# Altium schematic symbol library Schlib1.SchLib: 50 symbols (part 1 of 2)
Pins are listed as number, name and electrical type; pins without a type are passive.

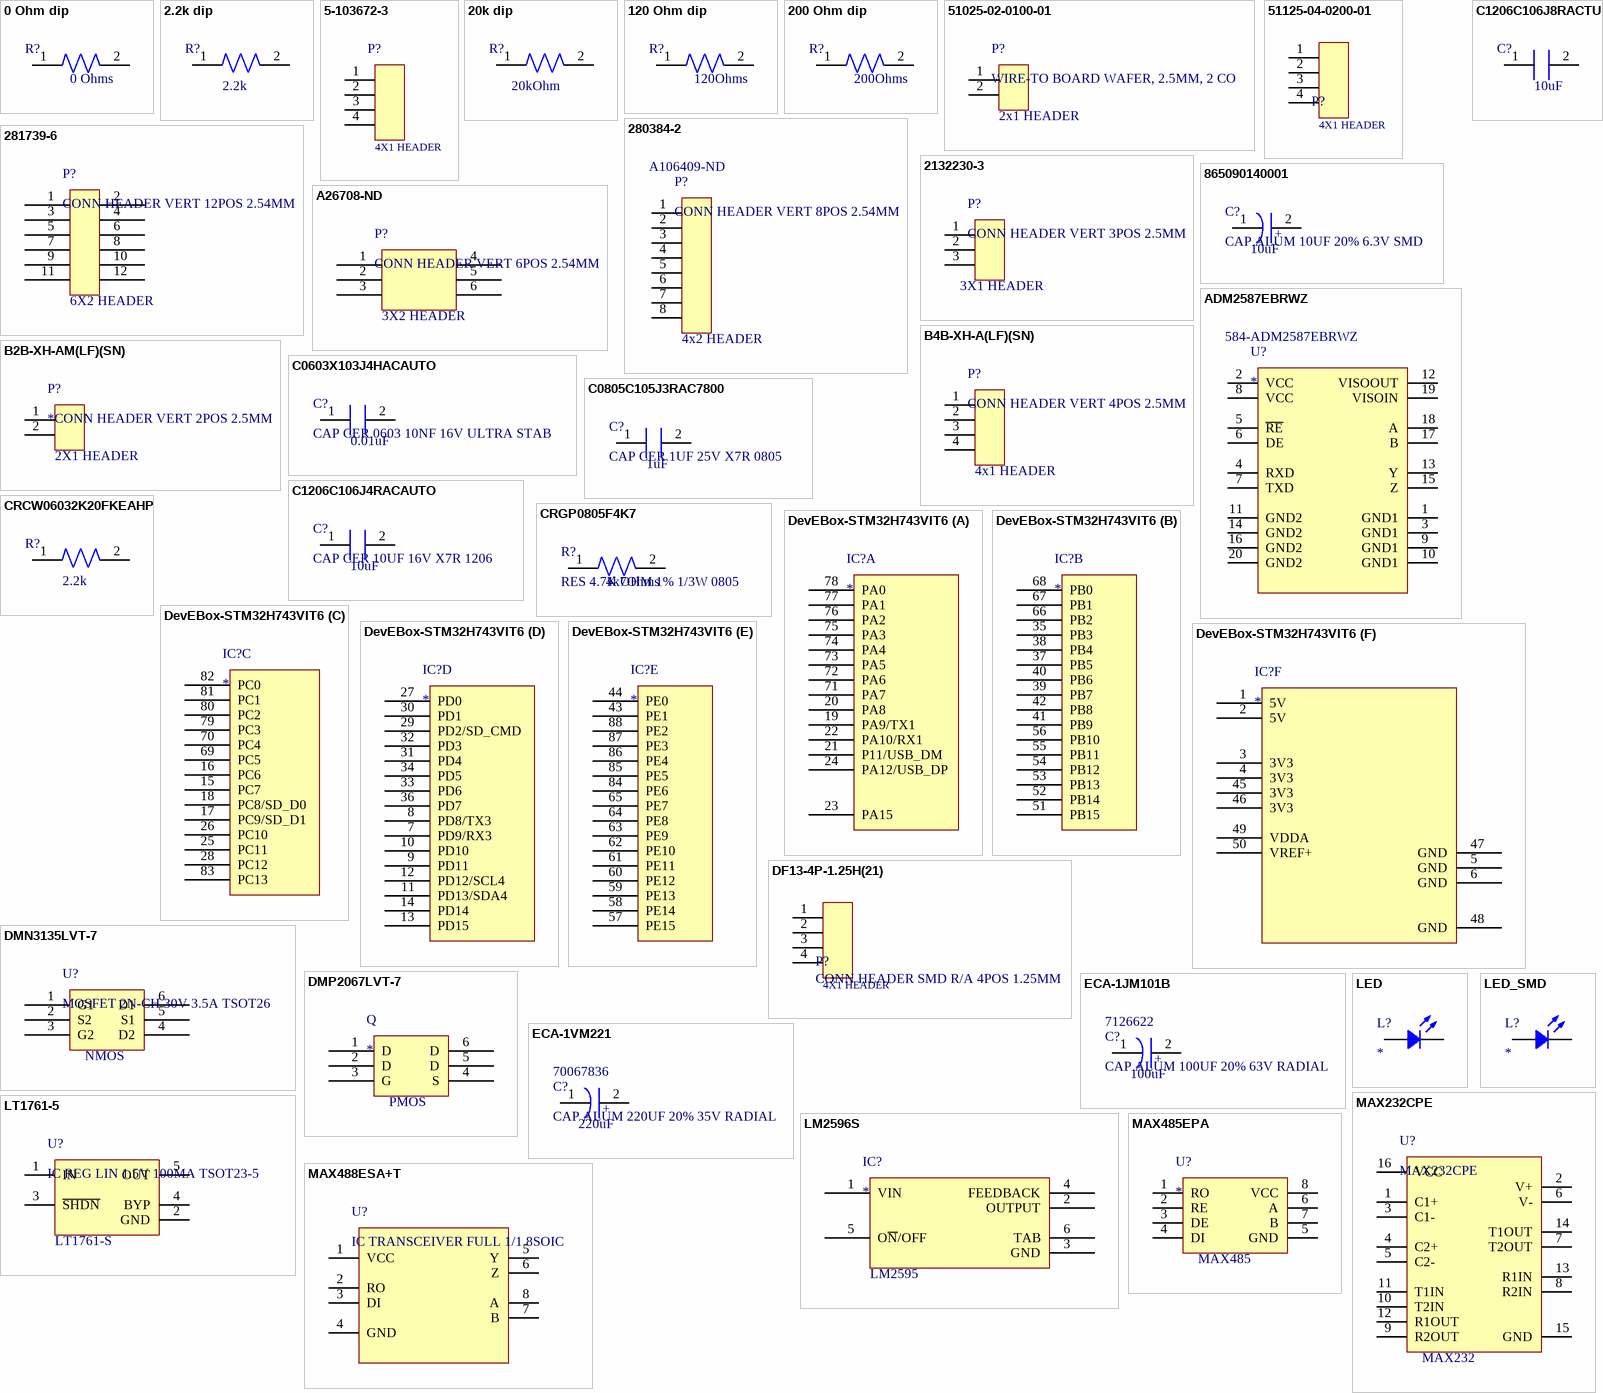
[diagram p0: symbols 0 Ohm dip to MAX488ESA+T]

## 0 Ohm dip
designator R?
Manufacturer: Yageo; Manufacturer Part Number: RC0402JR-070RL; Resistance: 0mR; Power Rating: 62.5mW; Tolerance: 5%; Voltage Rating: 50V; Max Power Dissipation: 63mW; Temperature Coefficient: 200ppm/°C; RoHS: Yes; Category: Chip SMD Resistors; Stock 1: 24575445; Pricing 1: 1=0,10000, 10=0,01200, 25=0,00840, 50=0,00640, 100=0,00470, 250=0,00360, 500=0,00288, 1000=0,00212, 5000=0,00152 (USD); Case/Package: 0402; Contact Plating: Tin,Matte; Case Code (Metric): 1005; Case Code (Imperial): 0402; Size Code: 0402; Min Operating Temperature: -55°C; Max Operating Temperature: 155°C; Resistor Type: Thick Film; Packaging: Tape and Reel; Number of Terminations: 2; Termination: SMD/SMT; Features: Moisture Resistant; Series: RC; Package Quantity: 1; Technology: THICK FILM; Resistance Tolerance: 5%; Construction: Rectangular; Length: 1mm; Width: 0.02inch; Height: 0.016inch; Depth: 0.5mm; Radiation Hardening: No; Lead Free: Lead Free; REACH SVHC: Unknown; RoHS Compliant: Yes; Military Standard: Not
footprint 51025-02-0100-01
pins: 1, 2
text: 0 Ohms

## 2.2k dip
designator R?, comment Dip resistor  (value not drawn)
Manufacturer: Vishay; Manufacturer Part Number: CRCW06032K20FKEAHP; Resistance: 2.2kR; Tolerance: 1%; Temperature Coefficient: 100ppm/°C; Power Rating: 250mW; Voltage Rating: 75V; RoHS: Yes; Category: Chip SMD Resistors; Stock 1: 19777; Pricing 1: 1=0,17000, 10=0,14800, 100=0,05790, 1000=0,02422, 2500=0,02220 (USD); Mount: Surface Mount; Case/Package: 0603; Contact Plating: Tin; Case Code (Metric): 1608; Case Code (Imperial): 0603; Min Operating Temperature: -55°C; Max Operating Temperature: 155°C; Resistor Type: Thick Film; Packaging: Tape and Reel; Package Quantity: 1; Number of Terminations: 2; Termination: Solder; Max Power Dissipation: 250mW; Voltage Rating (DC): 75V; Features: Automotive AEC-Q200; Series: CRCW-HP; Construction: Rectangular; Technology: THICK FILM; Resistance Tolerance: 1%; Length: 1.6mm; Width: 0.033inch; Height: 0.02inch; Depth: 0.85mm; Radiation Hardening: No; REACH SVHC: Unknown; Military Standard: Not; Lead Free: Lead Free; RoHS Compliant: Yes
footprint Resistor DIP
pins: 1, 2
text: 2.2k

## 5-103672-3
designator P?
Conn Shrouded Header (4 Sides) HDR 4 POS 2.54mm Solder RA Side Entry Thru-Hole Tube; Manufacturer: TE Connectivity; Manufacturer Part Number: 5-103672-3; Current Rating: 3A; Number of Positions: 4; Insulation Resistance: 5GR; Connector Type: Plug,Header,Pin; Mating Alignment: Yes (With); PCB Mount Retention: With; Strain Relief: No (Without); Contact Resistance: 15mR; PCB Mounting Orientation: Right Angle; Row Spacing: 0.1inch; Plating Thickness: 2.54um; PCB Thickness: 0.062inch; Tail Length: 3.3mm; Approvals: CSA; Supplier 1: Digi-Key; RoHS: Yes; Category: Connectors; Stock 1: 5165; Pricing 1: 1=0,95000, 42=0,75643, 84=0,72357, 462=0,59199, 966=0,52621, 4914=0,46043, 9828=0,43851 (USD); Mount: Through Hole; Housing Color: Black; Housing Material: Thermoplastic; Color: Black; Contact Material: Brass; Contact Plating: Tin,Matte; Contact Shape: Square; Min Operating Temperature: -65°C; Max Operating Temperature: 105°C; Number of Rows: 1; Package Quantity: 42; Packaging: Rail/Tube; Number of Contacts: 4; Termination: Crimp; Mating Retention: Yes (With); Contact Gender: Male; Orientation: Right Angle; Contact Current Rating: 3A; Series: AMPMODU MTE; Contact Type: Male Pin; Backwall/Post Interruptions: No (Without); Contact Retention: Yes (With); PCB Mount Alignment: No (Without); Length: 12.7mm; Height: 13.59mm; Pitch: 2.54mm; Depth: 13.59mm; Contact Mating Length: 0.23inch; Radiation Hardening: No; Flammability Rating: UL94 V-0; RoHS Compliant: Yes; REACH SVHC: Unknown; ComponentLink1URL: https://datasheet.ciiva.com/22644/eng-cd-103672-ac3-22644666.pdf?src-supplier=Element14; ComponentLink1Description: https://datasheet.ciiva.com/22644/eng-cd-103672-ac3-22644666.pdf?src-supplier=Element14; ComponentLink2URL: https://datasheet.ciiva.com/717/eng-cd-103672-ac3-717869.pdf?src-supplier=Digi-Key; ComponentLink2Description: https://datasheet.ciiva.com/717/eng-cd-103672-ac3-717869.pdf?src-supplier=Digi-Key; ComponentLink3URL: https://datasheet.ciiva.com/9467/eng-cs-1307819-section-5-cont-0808-9467597.pdf?src-supplier=Avnet; ComponentLink3Description: https://datasheet.ciiva.com/9467/eng-cs-1307819-section-5-cont-0808-9467597.pdf?src-supplier=Avnet; ComponentLink4URL: https://datasheet.ciiva.com/30163/eng-cs-1307819-section-5-cont-0808-30163629.pdf?src-supplier=Onlinecomponents.com; ComponentLink4Description: https://datasheet.ciiva.com/30163/eng-cs-1307819-section-5-cont-0808-30163629.pdf?src-supplier=Onlinecomponents.com; Supplier Part Number 1: A35017-ND
footprint DF13-4P-1.25V
pins: 1, 2 8, 3 7, 4 6
text: 4X1 HEADER

## 20k dip
designator R?, comment RES 20K OHM 1% 1/10W 0603  (value not drawn)
Manufacturer: Yageo; Manufacturer Part Number: RC0603FR-0720KL; Resistance: 20kR; Temperature Coefficient: 100ppm/°C; Voltage Rating (DC): 50V; Power Rating: 100mW; RoHS: Yes; Category: Chip SMD Resistors; Stock 1: 2535842; Pricing 1: 1=0,10000, 10=0,02400, 100=0,00970, 1000=0,00436, 2500=0,00378 (USD); Case/Package: 0603; Number of Pins: 2; Case Code (Imperial): 0603; Case Code (Metric): 1608; Size Code: 0603; Min Operating Temperature: -55°C; Max Operating Temperature: 155°C; Tolerance: 1%; Resistor Type: Thick Film; Packaging: Tape and Reel; Voltage Rating: 50V; Package Quantity: 1; Termination: SMD/SMT; Number of Terminations: 2; Max Power Dissipation: 100mW; Features: Moisture Resistant; Series: RC; Technology: THICK FILM; Construction: Rectangular; Resistance Tolerance: 1%; Length: 0.063inch; Width: 0.031inch; Height: 0.022inch; Depth: 0.8mm; Lead Free: Lead Free; RoHS Compliant: Yes; REACH SVHC: No SVHC; Military Standard: Not; ComponentLink1Description: http://www.royalohm.com/pdf/product2017/GeneralPurpose.pdf; ComponentLink1URL: *
footprint Resistor DIP
pins: 1, 2
text: 20kOhm

## 120 Ohm dip
designator R?
Manufacturer: Yageo; Manufacturer Part Number: RC0402FR-07120RL; Resistance: 120R; Tolerance: 1%; Power Rating: 62.5mW; Voltage Rating: 50V; Temperature Coefficient: 100ppm/°C; Max Power Dissipation: 63mW; RoHS: Yes; Category: Chip SMD Resistors; Stock 1: 1648497; Pricing 1: 1=0,10000, 10=0,01600, 100=0,00660, 1000=0,00299, 2500=0,00259, 5000=0,00214 (USD); Case/Package: 0402; Case Code (Imperial): 0402; Case Code (Metric): 1005; Size Code: 0402; Min Operating Temperature: -55°C; Max Operating Temperature: 155°C; Package Quantity: 1; Packaging: Tape and Reel; Termination: SMD/SMT; Resistor Type: Thick Film; Number of Terminations: 2; Features: Moisture Resistant; Series: RC; Resistance Tolerance: 1%; Construction: Rectangular; Technology: THICK FILM; Length: 1mm; Width: 0.02inch; Height: 0.016inch; Depth: 0.5mm; REACH SVHC: No SVHC; Military Standard: Not; Lead Free: Lead Free; RoHS Compliant: Yes
footprint Resistor DIP
pins: 1, 2
text: 120Ohms

## 200 Ohm dip
designator R?
Manufacturer: Yageo; Manufacturer Part Number: RC0201JR-0710KL; Resistance: 10kR; Tolerance: 5%; Temperature Coefficient: 200ppm/°C; Power Rating: 50mW; Voltage Rating: 25V; Working Voltage: 75V; RoHS: Yes; Category: Chip SMD Resistors; Stock 1: 588676; Pricing 1: 1=0,10000, 10=0,02900, 100=0,01190, 1000=0,00536, 2500=0,00466, 5000=0,00385 (USD); Case/Package: 0201; Contact Plating: Tin,Matte; Case Code (Imperial): 0201; Case Code (Metric): 0603; Size Code: 0201; Min Operating Temperature: -55°C; Max Operating Temperature: 125°C; Resistor Type: Thick Film; Packaging: Tape and Reel; Termination: SMD/SMT; Voltage Rating (DC): 25V; Features: Moisture Resistant; Series: RC; Max Power Dissipation: 50mW; Number of Terminations: 2; Resistance Tolerance: 5%; Construction: Rectangular; Length: 0.6mm; Depth: 0.3mm; Radiation Hardening: No; REACH SVHC: Unknown; Military Standard: Not; Lead Free: Lead Free; RoHS Compliant: Yes; Stock 2: 1724081; Pricing 2: 1=0,10000, 10=0,02400, 100=0,00970, 1000=0,00436, 2500=0,00378 (USD); Number of Pins: 2; Package Quantity: 5000; Technology: THICK FILM; Width: 0.8mm; Height: 0.45mm
footprint Resistor DIP
pins: 1, 2
text: 200Ohms

## 51025-02-0100-01
designator P?, comment WIRE-TO BOARD WAFER, 2.5MM, 2 CO
Connector Header Through Hole 2 position 0.098" (2.50mm); Manufacturer: CNC Tech; Manufacturer Part Number: 51025-02-0100-01; Supplier 1: Digi-Key; RoHS: No; Stock 1: 15526; Pricing 1: 1=0,10000, 10=0,08300, 100=0,06090, 500=0,05040, 1000=0,04410, 5000=0,03780, 10000=0,03675 (USD); Supplier Part Number 1: 1175-51025-02-0100-01-ND
footprint 51025-02-0100-01
pins: 1, 2
text: 2x1 HEADER

## 51125-04-0200-01
designator P?, comment WIRE-TO BOARD HEADER, 2.5MM, 4 C  (value not drawn)
Manufacturer: CNC Tech; Manufacturer Part Number: 51125-04-0200-01; Supplier 1: Digi-Key; RoHS: No; Category: Connectors; Stock 1: 5369; Pricing 1: 1=0,21000, 10=0,17700, 100=0,13650, 500=0,11550, 1000=0,09450, 5000=0,08400, 10000=0,07613 (USD); Supplier Part Number 1: 1175-51125-04-0200-01-ND
footprint 51125-04-0200-01
pins: 1, 2 8, 3 7, 4 6
text: 4X1 HEADER

## 280384-2
designator P?, comment CONN HEADER VERT 8POS 2.54MM  Supplier Part Number 1: A106409-ND
Straight PCB Header, 8-Way 2 Row, 2.54 mm Pitch, Solder, AMPMODU Mod II Series; Manufacturer: TE Connectivity; Manufacturer Part Number: 280384-2; Number of Contacts: 8; Connector Type: Plug,Header,Pin; Current Rating: 3A; Insulation Resistance: 1GR; Gender: Male; Board Standoff: No (Without); Contact Protection: Yes (With); High Speed Serial Data Connector: No; PCB Mount Retention: Without; PCB Mounting Orientation: Vertical; Contact Post Length: 0.138inch; Plating Thickness: 2.5um; Approvals: CSA; Supplier 1: Digi-Key; RoHS: Yes; Category: Headers and Wire Housings; Stock 1: 4241; Pricing 1: 1=1,41000, 10=1,19200, 100=1,07000, 500=0,87546, 1000=0,77819, 5000=0,68092, 10000=0,64849 (USD); Mount: Through Hole; Contact Plating: Gold,Tin; Contact Material: Brass; Color: Black; Housing Material: Thermoplastic; Housing Color: Black; Contact Shape: Round; Material: Thermoplastic; Min Operating Temperature: -65°C; Max Operating Temperature: 105°C; Number of Rows: 2; Termination: Through Hole; Packaging: Box; Package Quantity: 1000; Contact Gender: Male; Number of Positions: 8; Orientation: Straight; Gasket: No (Without); High Temperature Housing: No; Keyed: No; Mating Alignment: Yes (With); Mating Connector Lock: Yes (With); Selectively Loaded: No (Without); Stabilizers: No (Without); Strain Relief: No (Without); Series: AMPMODU MOD II; Contact Type: Male Pin; Length: 12.7mm; Pitch: 2.54mm; Row Spacing: 2.54mm; Depth: 7mm; Contact Mating Length: 0.26inch; Shrouded End Dimension: 1.65mm; Radiation Hardening: No; Flammability Rating: UL94 V-0; REACH SVHC: Unknown; ELV: Compliant; RoHS Compliant: Yes; Lead Free: Lead Free; ComponentLink1URL: https://datasheet.ciiva.com/6831/eng-cd-280384-t-6831188.pdf?src-supplier=Digi-Key; ComponentLink1Description: https://datasheet.ciiva.com/6831/eng-cd-280384-t-6831188.pdf?src-supplier=Digi-Key; ComponentLink2URL: https://datasheet.ciiva.com/30131/2803842-30131120.pdf?src-supplier=Onlinecomponents.com; ComponentLink2Description: https://datasheet.ciiva.com/30131/2803842-30131120.pdf?src-supplier=Onlinecomponents.com; ComponentLink3URL: https://datasheet.ciiva.com/16308/280384-2-16308477.pdf?src-supplier=Future+Electronics; ComponentLink3Description: https://datasheet.ciiva.com/16308/280384-2-16308477.pdf?src-supplier=Future+Electronics; ComponentLink4URL: https://datasheet.ciiva.com/11746/0900766b805fc845-11746302.pdf?src-supplier=RSComponents; ComponentLink4Description: https://datasheet.ciiva.com/11746/0900766b805fc845-11746302.pdf?src-supplier=RSComponents; ComponentLink5URL: https://datasheet.ciiva.com/29369/001079533-da-01-en-4x2pol-stiftleiste-schutzkragen-29369272.pdf?src-supplier=Conrad; ComponentLink5Description: https://datasheet.ciiva.com/29369/001079533-da-01-en-4x2pol-stiftleiste-schutzkragen-29369272.pdf?src-supplier=Conrad; ComponentLink6URL: https://datasheet.ciiva.com/14120/04383204-14120725.pdf?src-supplier=Distrelec; ComponentLink6Description: https://datasheet.ciiva.com/14120/04383204-14120725.pdf?src-supplier=Distrelec
footprint 280384-2 (CONN HEADER VERT 8POS 2.54MM)
pins: 1, 2, 3, 4, 5, 6, 7, 8
text: 4x2 HEADER

## 281739-6
designator P?, comment CONN HEADER VERT 12POS 2.54MM
Conn Shrouded Header HDR 12 POS 2.54mm Solder ST Thru-Hole Loose Piece; Manufacturer: TE Connectivity; Manufacturer Part Number: 281739-6; Current Rating: 3A; Number of Poles: 12; Contact Resistance: 15mR; Mating Cycles: 30; Insulation Resistance: 1GR; Working Voltage: 500V; Connector Type: Plug,Header,Pin; Gender: Male; Board Standoff: No (Without); Contact Protection: Yes (With); Keyed: No; PCB Mount Retention: Without; PCB Mounting Orientation: Vertical; Contact Post Length: 2.9mm; Hole Diameter: 1mm; Supplier 1: Digi-Key; RoHS: Yes; Category: Headers and Wire Housings; Stock 1: 2109; Pricing 1: 1=2,80000, 10=2,54500, 100=2,24220, 500=1,90586, 1000=1,62559, 5000=1,49479 (USD); Mount: Through Hole; Contact Plating: Tin; Color: Blue; Material: Glass,Polyester; Insulation Material: Thermoplastic; Contact Material: Bronze; Housing Color: Blue; Housing Material: Thermoplastic; Contact Shape: Square; Contact Finish - Mating: TIN; Insulation Color: Blue; Min Operating Temperature: -55°C; Max Operating Temperature: 105°C; Number of Rows: 2; Package Quantity: 2000; Termination: Through Hole; Number of Contacts: 12; Series: HE13/HE14; Packaging: Box; Contact Gender: Male; Number of Positions: 12; Orientation: Straight; Gasket: No (Without); Mating Alignment: No (Without); Mating Connector Lock: No (Without); Selectively Loaded: No (Without); Stabilizers: No (Without); Strain Relief: No (Without); Contact Current Rating: 3A; Fastening Type: Friction; Contact Type: Male Pin; Length: 15.24mm; Pitch: 2.54mm; Lead Pitch: 2.54mm; Row Spacing: 2.54mm; Contact Mating Length: 6.75mm; Depth: 7.62mm; Shrouded End Dimension: 1.27mm; Radiation Hardening: No; REACH SVHC: No SVHC; RoHS Compliant: Yes; Flammability Rating: UL94 V-0; ELV: Compliant; ComponentLink1URL: https://datasheet.ciiva.com/11748/0900766b8124a6f5-11748092.pdf?src-supplier=RSComponents; ComponentLink1Description: https://datasheet.ciiva.com/11748/0900766b8124a6f5-11748092.pdf?src-supplier=RSComponents; ComponentLink2URL: https://datasheet.ciiva.com/41447/001173320-da-01-ml-he14-stiftleiste-0-0281739-6-en-fr-41447806.pdf?src-supplier=Conrad; ComponentLink2Description: https://datasheet.ciiva.com/41447/001173320-da-01-ml-he14-stiftleiste-0-0281739-6-en-fr-41447806.pdf?src-supplier=Conrad; ComponentLink3URL: https://datasheet.ciiva.com/7212/23844-7212941.pdf?src-supplier=Newark; ComponentLink3Description: https://datasheet.ciiva.com/7212/23844-7212941.pdf?src-supplier=Newark; ComponentLink4URL: https://datasheet.ciiva.com/731/eng-cd-281739-g1-731286.pdf?src-supplier=Digi-Key; ComponentLink4Description: https://datasheet.ciiva.com/731/eng-cd-281739-g1-731286.pdf?src-supplier=Digi-Key; Supplier Part Number 1: A121458-ND
footprint 281739-6 (CONN HEADER VERT 12POS 2.54MM)
pins: 1, 2, 3, 4, 5, 6, 7, 8, 9, 10, 11, 12
text: 6X2 HEADER

## 2132230-3
designator P?, comment CONN HEADER VERT 3POS 2.5MM
Conn Shrouded Header HDR 3Power POS 2.5mm Solder ST Top Entry Thru-Hole Bag; Manufacturer: TE Connectivity; Manufacturer Part Number: 2132230-3; Connector Type: Plug,Header,Pin; Gender: Male; Contact Current Rating: 4.2A; Backwall/Post Interruptions: No (Without); Connector System: Wire-to-Board; Mating Alignment: Yes (With); Voltage Rating: 250V; Current Rating: 3A; Contact Style: Straight; Number of Positions: 3; PCB Mount Retention: Without; PCB Mounting Orientation: Vertical; Plating Thickness: 2.032um; PCB Thickness: 0.063inch; Tail Length: 3.4mm; Supplier 1: Digi-Key; RoHS: Yes; Category: Headers and Wire Housings; Stock 1: 3045; Pricing 1: 1=0,30000, 10=0,25700, 100=0,19970, 500=0,17120, 1000=0,14266, 5000=0,12228, 10000=0,11413 (USD); Mount: Through Hole; Housing Material: Nylon; Housing Color: White; Contact Shape: Square; Contact Material: Brass; Contact Plating: Tin; Color: Natural; Min Operating Temperature: -55°C; Max Operating Temperature: 105°C; Orientation: Straight; Contact Retention: No (Without); Mating Retention: Yes (With); PCB Mount Alignment: Yes (With); Sealable: No (Without); Selectively Loaded: No (Without); Number of Rows: 1; Contact Gender: Male; Package Quantity: 600; Max Voltage Rating (AC): 250V; Packaging: Bag; Termination: Solder; Number of Contacts: 3; Length: 10mm; Width: 6.4mm; Height: 8.8mm; Pitch: 2.5mm; Contact Mating Length: 3.6mm; Depth: 6.4mm; Radiation Hardening: No; ELV: Compliant; Flammability Rating: UL94 V-0; REACH SVHC: No SVHC; Lead Free: Lead Free; ComponentLink1URL: https://datasheet.ciiva.com/12501/ng-cd-2132230-d2-18263-12501858.pdf?src-supplier=Mouser; ComponentLink1Description: https://datasheet.ciiva.com/12501/ng-cd-2132230-d2-18263-12501858.pdf?src-supplier=Mouser; ComponentLink2URL: https://datasheet.ciiva.com/736/eng-cd-2132230-f-736027.pdf?src-supplier=Digi-Key; ComponentLink2Description: https://datasheet.ciiva.com/736/eng-cd-2132230-f-736027.pdf?src-supplier=Digi-Key; ComponentLink3URL: https://datasheet.ciiva.com/30153/790ddetrolleractionsrchrtrvdocnm7-1773461-6ep2-5doctypedatasheetd-30153803.pdf?src-supplier=Onlinecomponents.com; ComponentLink3Description: https://datasheet.ciiva.com/30153/790ddetrolleractionsrchrtrvdocnm7-1773461-6ep2-5doctypedatasheetd-30153803.pdf?src-supplier=Onlinecomponents.com; ComponentLink4URL: https://datasheet.ciiva.com/9528/eng-ds-7-1773461-6ep2-5-0615-9528616.pdf?src-supplier=Avnet; ComponentLink4Description: https://datasheet.ciiva.com/9528/eng-ds-7-1773461-6ep2-5-0615-9528616.pdf?src-supplier=Avnet
footprint 2132230-3 (CONN HEADER VERT 3POS 2.5MM)
pins: 1, 2, 3
text: 3X1 HEADER

## 865090140001
designator C?, comment CAP ALUM 10UF 20% 6.3V SMD
Smd Aluminium Electrolytic Capacitor, Wcap-Aslu Series, 10 F, 6.3 V, Radial Can - Smd, 4 Mm Rohs Compliant: Yes; Manufacturer: Wurth Electronics; Manufacturer Part Number: 865090140001; Polarity: Polar; Ripple Current: 15mA; Life (Hours): 1000Hour; Supplier 1: Digi-Key; RoHS: Yes; Category: Aluminum Electrolytic Capacitors; Stock 1: 1938; Pricing 1: 1=0,18000, 50=0,15100, 100=0,13100, 250=0,11700, 500=0,10200, 1000=0,09700 (USD); Mount: Surface Mount; Case/Package: Radial; Min Operating Temperature: -40°C; Max Operating Temperature: 85°C; Package Quantity: 2000; Packaging: Cut Tape; Voltage Rating: 6.3V; Ripple Current (AC): 15mA; Tolerance: 20%; Voltage Rating (DC): 6.3V; Capacitance: 10uF; Diameter: 4mm; Height: 5.5mm; Height - Seated (Max): 0.217inch; REACH SVHC: Unknown; RoHS Compliant: Yes; ComponentLink1URL: http://www.farnell.com/datasheets/1880191.pdf?src-supplier=Farnell; ComponentLink1Description: http://www.farnell.com/datasheets/1880191.pdf?src-supplier=Farnell; ComponentLink2URL: http://www.farnell.com/datasheets/1880191.pdf?src-supplier=Element14; ComponentLink2Description: http://www.farnell.com/datasheets/1880191.pdf?src-supplier=Element14; ComponentLink3URL: http://www.farnell.com/datasheets/1880191.pdf?src-supplier=Newark; ComponentLink3Description: http://www.farnell.com/datasheets/1880191.pdf?src-supplier=Newark; ComponentLink4URL: http://katalog.we-online.de/pbs/datasheet/865090140001.pdf?src-supplier=Digi-Key; ComponentLink4Description: http://katalog.we-online.de/pbs/datasheet/865090140001.pdf?src-supplier=Digi-Key; ComponentLink5URL: https://katalog.we-online.de/pbs/datasheet/865090140001.pdf?src-supplier=Digi-Key; ComponentLink5Description: https://katalog.we-online.de/pbs/datasheet/865090140001.pdf?src-supplier=Digi-Key; Supplier Part Number 1: 732-8385-1-ND
footprint CAPAE430X550N
pins: 1, 2
text: +

## A26708-ND
designator P?, comment CONN HEADER VERT 6POS 2.54MM
Conn Shrouded Header (4 Sides) HDR 6 POS 2.54mm Solder ST Top Entry Thru-Hole Tray; Manufacturer: TE Connectivity; Manufacturer Part Number: 103168-1; Current Rating: 3A; Number of Positions: 6; Connector Type: Plug,Header,Pin; Board Standoff: No (Without); Contact Protection: Yes (With); High Speed Serial Data Connector: No; PCB Mount Retention: Without; PCB Mounting Orientation: Vertical; Contact Post Length: 0.125inch; Approvals: CSA; Supplier 1: Avnet; RoHS: No; Category: Headers and Wire Housings; Stock 1: 6268; Pricing 1: 232=1,27440, 240=1,25820, 470=1,23660, 1200=0,97005, 2400=0,96135, 232=0,94668, 240=0,93465, 470=0,91860, 1200=0,89453, 2400=0,88651 (USD); Mount: Through Hole; Contact Plating: Gold,Tin; Contact Material: Bronze; Color: Black; Housing Color: Black; Housing Material: Thermoplastic; Contact Shape: Square; Min Operating Temperature: -65°C; Max Operating Temperature: 105°C; Packaging: Tray; Number of Rows: 2; Contact Gender: Male; Package Quantity: 232; Fastening Type: Detent; Termination: Through Hole; Number of Contacts: 6; Orientation: Straight; Gasket: No (Without); High Temperature Housing: No; Keyed: No; Mating Alignment: Yes (With); Mating Connector Lock: Yes (With); Selectively Loaded: No (Without); Stabilizers: No (Without); Strain Relief: No (Without); Contact Current Rating: 3A; Series: AMPMODU MOD II; Contact Type: Male Pin; Length: 10.46mm; Height: 11.18mm; Pitch: 2.54mm; Row Spacing: 2.54mm; Contact Mating Length: 8.08mm; Depth: 10.16mm; Shrouded End Dimension: 1.68mm; Radiation Hardening: No; Flammability Rating: UL94 V-0; RoHS Compliant: No; ComponentLink1URL: https://datasheet.ciiva.com/30255/103168-1rqpn103168-1-30255969.pdf?src-supplier=Onlinecomponents.com; ComponentLink1Description: https://datasheet.ciiva.com/30255/103168-1rqpn103168-1-30255969.pdf?src-supplier=Onlinecomponents.com; ComponentLink2URL: https://datasheet.ciiva.com/16323/103168-1-16323140.pdf?src-supplier=Future+Electronics; ComponentLink2Description: https://datasheet.ciiva.com/16323/103168-1-16323140.pdf?src-supplier=Future+Electronics; ComponentLink3URL: https://datasheet.ciiva.com/15191/getdatasheetpartid-90739-15191128.pdf?src-supplier=Verical; ComponentLink3Description: https://datasheet.ciiva.com/15191/getdatasheetpartid-90739-15191128.pdf?src-supplier=Verical; ComponentLink4URL: https://datasheet.ciiva.com/19461/737627-19461917.pdf?src-supplier=Jameco; ComponentLink4Description: https://datasheet.ciiva.com/19461/737627-19461917.pdf?src-supplier=Jameco; ComponentLink5URL: https://datasheet.ciiva.com/710/eng-cd-103168-j4-710153.pdf?src-supplier=Digi-Key; ComponentLink5Description: https://datasheet.ciiva.com/710/eng-cd-103168-j4-710153.pdf?src-supplier=Digi-Key
footprint A26708-ND (CONN HEADER VERT 6POS 2.54MM)
pins: 1, 2, 3, 4, 5, 6
text: 3X2 HEADER

## ADM2587EBRWZ
designator U?  Supplier Part Number 1: 584-ADM2587EBRWZ
Single Transmitter/Receiver RS-422/RS-485 20-Pin SOIC W Tube; Manufacturer: Analog Devices; Manufacturer Part Number: ADM2587EBRWZ; Number of Transmitters: 1; Logic Function: Transceiver; Propagation Delay: 200ns; Min Supply Voltage: 3V; Max Supply Voltage: 5.5V; Nominal Supply Current: 125mA; Data Rate: 500Kbps; Operating Supply Voltage: 5V; Number of Channels: 3; Channel Type: Unidirectional; Isolated Power: Yes; Frequency: 500kHz; Isolation Voltage: 2.5kV; Simplex/Duplex: Full Duplex; Interface: RS-422,RS-485; Supplier 1: Mouser; RoHS: Yes; Category: RS-232 / RS-422 / RS-485 Interface ICs; Stock 1: 16; Pricing 1: 1=14,40000, 10=13,24000, 25=12,69000, 50=12,69000, 100=12,69000, 111=11,17000, 1000=11,17000, 10000=11,17000 (USD); Mount: Surface Mount; Case/Package: SOIC; Number of Pins: 20; Contact Plating: Tin,Matte; Min Operating Temperature: -40°C; Max Operating Temperature: 85°C; Packaging: Rail/Tube; Number of Receivers: 1; Package Quantity: 37; Operating Supply Current: 125mA; Number of Transceivers: 1; Supply Current: 125mA; Series: IsoPower®, iCoupler®; Number of Drivers: 1; Max Supply Current: 125mA; ESD Protection: Yes; Length: 13mm; Width: 7.6mm; Height: 2.35mm; Radiation Hardening: No; Lead Free: Contains Lead; RoHS Compliant: Yes; REACH SVHC: No SVHC; ComponentLink1URL: https://datasheet.ciiva.com/14185/adm2587e-eng-tds-14185959.pdf?src-supplier=Distrelec; ComponentLink1Description: https://datasheet.ciiva.com/14185/adm2587e-eng-tds-14185959.pdf?src-supplier=Distrelec; ComponentLink2URL: https://datasheet.ciiva.com/26833/adm2587ebrwz-26833967.pdf?src-supplier=IIIC; ComponentLink2Description: https://datasheet.ciiva.com/26833/adm2587ebrwz-26833967.pdf?src-supplier=IIIC; ComponentLink3URL: https://datasheet.ciiva.com/3029/adm2582e-2587e-3029985.pdf?src-supplier=Avnet; ComponentLink3Description: https://datasheet.ciiva.com/3029/adm2582e-2587e-3029985.pdf?src-supplier=Avnet; ComponentLink4URL: https://datasheet.ciiva.com/1700/adm2582e-2587e-1700686.pdf?src-supplier=Digi-Key; ComponentLink4Description: https://datasheet.ciiva.com/1700/adm2582e-2587e-1700686.pdf?src-supplier=Digi-Key; ComponentLink5URL: https://datasheet.ciiva.com/48708/001248353-da-01-en-ic-txrx-rs485-i-adm2587ebrwz-soic-20-adi-48708666.pdf?src-supplier=Conrad; ComponentLink5Description: https://datasheet.ciiva.com/48708/001248353-da-01-en-ic-txrx-rs485-i-adm2587ebrwz-soic-20-adi-48708666.pdf?src-supplier=Conrad
footprint ADM2587EBRWZ
pins: 1 GND1, 2 VCC, 3 GND1, 4 RXD, 5 ~{RE}, 6 DE, 7 TXD, 8 VCC, 9 GND1, 10 GND1, 11 GND2, 12 VISOOUT, 13 Y, 14 GND2, 15 Z, 16 GND2, 17 B, 18 A, 19 VISOIN, 20 GND2

## B2B-XH-AM(LF)(SN)
designator P?, comment *CONN HEADER VERT 2POS 2.5MM
Conn Shrouded Header (4 Sides) HDR 2 POS 2.5mm Solder ST Top Entry Thru-Hole Box; Manufacturer: JST; Manufacturer Part Number: B2B-XH-A(LF)(SN); Number of Positions: 2; Connector Type: Male Pin; Contact Resistance: 20mR; Max Current Rating: 3A; Max Voltage Rating (AC): 250V; Insulation Resistance: 1GR; Wire/Cable Gauge: 22AWG; Supplier 1: RSComponents; RoHS: Yes; Category: Headers and Wire Housings; Stock 1: 7000; Mount: Through Hole; Contact Plating: Tin,Copper,Lead; Color: Natural; Contact Material: Brass; Housing Color: White; Housing Material: Polyamide; Min Operating Temperature: -25°C; Max Operating Temperature: 85°C; Number of Rows: 1; Packaging: Bulk; Termination: Solder; Fastening Type: Detent; Current Rating: 3A; Orientation: Straight; Voltage Rating: 250V; Voltage Rating (AC): 250V; Number of Contacts: 2; Max Voltage Rating (DC): 250V; Length: 7.4mm; Pitch: 2.5mm; Depth: 5.75mm; Lead Pitch: 2.5mm; Lead Free: Lead Free; REACH SVHC: No SVHC; ComponentLink1URL: https://datasheet.ciiva.com/26894/getdatasheetpartid-640357-26894434.pdf?src-supplier=Verical; ComponentLink1Description: https://datasheet.ciiva.com/26894/getdatasheetpartid-640357-26894434.pdf?src-supplier=Verical; ComponentLink2URL: https://datasheet.ciiva.com/11746/0900766b8082653e-11746979.pdf?src-supplier=RSComponents; ComponentLink2Description: https://datasheet.ciiva.com/11746/0900766b8082653e-11746979.pdf?src-supplier=RSComponents; ComponentLink3URL: https://datasheet.ciiva.com/26894/getdatasheetpartid-385291-26894760.pdf?src-supplier=Verical; ComponentLink3Description: https://datasheet.ciiva.com/26894/getdatasheetpartid-385291-26894760.pdf?src-supplier=Verical; ComponentLink4URL: https://datasheet.ciiva.com/8052/5448-8052024.pdf?src-supplier=Element14; ComponentLink4Description: https://datasheet.ciiva.com/8052/5448-8052024.pdf?src-supplier=Element14; ComponentLink5URL: https://datasheet.ciiva.com/20207/523653-20207167.pdf?src-supplier=Rapid+Electronics; ComponentLink5Description: https://datasheet.ciiva.com/20207/523653-20207167.pdf?src-supplier=Rapid+Electronics; Supplier 2: Digi-Key; Stock 2: 7636; Pricing 2: 1=0,17000, 10=0,13100, 100=0,09660, 500=0,07998, 1000=0,06999, 5000=0,05999, 10000=0,05832 (USD); ComponentLink6URL: https://datasheet.ciiva.com/26894/getdatasheetpartid-640409-26894436.pdf?src-supplier=Verical; ComponentLink6Description: https://datasheet.ciiva.com/26894/getdatasheetpartid-640409-26894436.pdf?src-supplier=Verical; ComponentLink7URL: https://datasheet.ciiva.com/14800/exh-14800590.pdf?src-supplier=Digi-Key; ComponentLink7Description: https://datasheet.ciiva.com/14800/exh-14800590.pdf?src-supplier=Digi-Key
footprint 51025-02-0100-01
pins: 1, 2
text: 2X1 HEADER

## B4B-XH-A(LF)(SN)
designator P?, comment CONN HEADER VERT 4POS 2.5MM
XH Series 4 Position 2.5 mm Pitch Through Hole Crimp Top Entry Shrouded Header; Manufacturer: JST; Manufacturer Part Number: B4B-XH-A(LF)(SN); Current Rating: 3A; Gender: Male; Contact Resistance: 20mR; Voltage Rating (AC): 250V; Connector Type: Male Pin; Number of Positions: 4; Insulation Resistance: 1GR; Wire/Cable Gauge: 22AWG; Supplier 1: Digi-Key; RoHS: Yes; Category: FFC / FPC; Stock 1: 53884; Pricing 1: 1=0,21000, 10=0,17500, 100=0,13480, 500=0,11406, 1000=0,09333, 5000=0,08296, 10000=0,07518 (USD); Mount: Through Hole; Contact Material: Brass; Material: Polyamide; Contact Plating: Tin,Copper,Lead; Color: Natural; Housing Material: Polyamide; Housing Color: White; Min Operating Temperature: -25°C; Max Operating Temperature: 85°C; Number of Rows: 1; Max Current Rating: 3A; Package Quantity: 500; Packaging: Bulk; Voltage Rating: 250V; Termination: Press-Fit; Max Voltage Rating (AC): 250V; Max Voltage Rating (DC): 250V; Number of Contacts: 4; Orientation: Straight; Length: 12.4mm; Pitch: 2.5mm; Lead Pitch: 2.5mm; Depth: 5.75mm; REACH SVHC: No SVHC; Lead Free: Lead Free; ComponentLink1URL: https://datasheet.ciiva.com/26894/getdatasheetpartid-455616-26894787.pdf?src-supplier=Verical; ComponentLink1Description: https://datasheet.ciiva.com/26894/getdatasheetpartid-455616-26894787.pdf?src-supplier=Verical; ComponentLink2URL: https://datasheet.ciiva.com/26924/getdatasheetpartid-640571-26924035.pdf?src-supplier=Verical; ComponentLink2Description: https://datasheet.ciiva.com/26924/getdatasheetpartid-640571-26924035.pdf?src-supplier=Verical; ComponentLink3URL: https://datasheet.ciiva.com/16203/b4b-xh-alfsn-16203642.pdf?src-supplier=Future+Electronics; ComponentLink3Description: https://datasheet.ciiva.com/16203/b4b-xh-alfsn-16203642.pdf?src-supplier=Future+Electronics; ComponentLink4URL: https://datasheet.ciiva.com/726/exh-726404.pdf?src-supplier=Digi-Key; ComponentLink4Description: https://datasheet.ciiva.com/726/exh-726404.pdf?src-supplier=Digi-Key; Supplier Part Number 1: 455-2249-ND
footprint B2B-XH-AM(LF)(SN)
pins: 1, 2, 3, 4
text: 4x1 HEADER

## C0603X103J4HACAUTO
designator C?, comment CAP CER 0603 10NF 16V ULTRA STAB
Cap Ceramic 0.01uF 16V X8R 5% Pad SMD 0603 Flexible Termination 150C Extreme Low ESR Automotive T/R; Manufacturer: KEMET; Manufacturer Part Number: C0603X103J4HACAUTO; Supplier 1: Digi-Key; RoHS: Yes; Category: Ceramic Capacitors; Stock 1: 9670; Pricing 1: 1=0,24000, 10=0,16700, 50=0,10000, 100=0,08440, 500=0,05778, 1000=0,05111 (USD); Mount: Surface Mount; Case/Package: 0603; Min Operating Temperature: -55°C; Max Operating Temperature: 150°C; Features: Soft Termination; Packaging: Tape and Reel; Capacitance: 10nF; Tolerance: 5%; Voltage Rating: 16V; Ratings: AEC-Q200; RoHS Compliant: Yes; ComponentLink1URL: https://api.kemet.com/component-edge/download/datasheet/C0603X103J4HACAUTO.pdf?src-supplier=Digi-Key; ComponentLink1Description: https://api.kemet.com/component-edge/download/datasheet/C0603X103J4HACAUTO.pdf?src-supplier=Digi-Key; Supplier Part Number 1: 399-C0603X103J4HACAUTOCT-ND
footprint C0603X103J4HACAUTO - duplicate
pins: 1, 2
text: 0.01uF

## C0805C105J3RAC7800
designator C?, comment CAP CER 1UF 25V X7R 0805
Cap Ceramic 1uF 25V X7R 5% SMD 0805 125C Plastic T/R; Manufacturer: KEMET; Manufacturer Part Number: C0805C105J3RACTU; Supplier 1: Farnell; RoHS: Yes; Category: Ceramic Capacitors; Stock 1: 72500; Pricing 1: 2500=0,29500 (EUR); Mount: Surface Mount; Case/Package: 0805; Case Code (Metric): 2012; Case Code (Imperial): 0805; Dielectric Material: Ceramic; Min Operating Temperature: -55°C; Max Operating Temperature: 125°C; Package Quantity: 1; Capacitance: 1uF; Voltage Rating: 25V; Tolerance: 5%; Packaging: Tape and Reel; Voltage Rating (DC): 25V; Dielectric: X7R; Termination: SMD/SMT; Series: C; Length: 2mm; Width: 0.049inch; Thickness: 0.055inch; Depth: 1.25mm; Radiation Hardening: No; REACH SVHC: No SVHC; RoHS Compliant: Yes; ComponentLink1URL: http://components.arrow.com/part/dataview/46126037S66869N7429?src-supplier=Arrow+Electronics; ComponentLink1Description: http://components.arrow.com/part/dataview/46126037S66869N7429?src-supplier=Arrow+Electronics; ComponentLink2URL: http://www.farnell.com/datasheets/2745929.pdf?src-supplier=Farnell; ComponentLink2Description: http://www.farnell.com/datasheets/2745929.pdf?src-supplier=Farnell; ComponentLink3URL: http://www.mouser.com/ds/2/212/KEM_C1002_X7R_SMD-1102033.pdf?src-supplier=Mouser; ComponentLink3Description: http://www.mouser.com/ds/2/212/KEM_C1002_X7R_SMD-1102033.pdf?src-supplier=Mouser; ComponentLink4URL: http://components.arrow.com/part/dataview/0323_00011351?src-supplier=Arrow+Europe; ComponentLink4Description: http://components.arrow.com/part/dataview/0323_00011351?src-supplier=Arrow+Europe; ComponentLink5URL: https://api.kemet.com/component-edge/download/datasheet/C0805C105J3RACTU.pdf?src-supplier=Digi-Key; ComponentLink5Description: https://api.kemet.com/component-edge/download/datasheet/C0805C105J3RACTU.pdf?src-supplier=Digi-Key; ComponentLink6URL: http://www.farnell.com/datasheets/2745929.pdf?src-supplier=Newark; ComponentLink6Description: http://www.farnell.com/datasheets/2745929.pdf?src-supplier=Newark; ComponentLink7URL: http://www.farnell.com/datasheets/2745929.pdf?src-supplier=Element14; ComponentLink7Description: http://www.farnell.com/datasheets/2745929.pdf?src-supplier=Element14
footprint C0805C105J3RAC7800
pins: 1, 2

## C1206C106J4RACAUTO
designator C?, comment CAP CER 10UF 16V X7R 1206
Cap Ceramic 10uF 16V X7R 5% SMD 1206 125°C Embossed Plastic T/R; Manufacturer: KEMET; Manufacturer Part Number: C1206C106J4RACAUTO; Supplier 1: Mouser; RoHS: Yes; Category: Ceramic Capacitors; Stock 1: 377; Pricing 1: 1=2,04000, 10=1,72000, 50=1,72000, 100=1,50000, 1000=1,00000, 10000=0,96300 (USD); Case/Package: 1206; Dielectric Material: Ceramic; Voltage Rating (DC): 16V; Dielectric: X7R; Tolerance: 5%; Capacitance: 10uF; RoHS Compliant: Yes; Supplier Part Number 1: 80-C1206C106J4RAUTO
footprint C1206C106J4RACAUTO
pins: 1, 2

## C1206C106J8RACTU
designator C?, comment CAP CER 10UF 10V X7R 1206  (value not drawn)
Cap Ceramic 10uF 10V X7R 5% SMD 1206 125°C Embossed Plastic T/R; Manufacturer: KEMET; Manufacturer Part Number: C1206C106J8RACTU; Supplier 1: Digi-Key; RoHS: Yes; Category: Ceramic Capacitors; Stock 1: 10487; Pricing 1: 1=1,91000, 10=1,50900, 50=1,30820, 100=1,13200, 500=0,85532, 1000=0,75469 (USD); Mount: Surface Mount; Case/Package: 1206; Case Code (Imperial): 1206; Case Code (Metric): 3216; Dielectric Material: Ceramic; Min Operating Temperature: -55°C; Max Operating Temperature: 125°C; Capacitance: 10uF; Tolerance: 5%; Packaging: Tape and Reel; Package Quantity: 1; Voltage Rating: 10V; Voltage Rating (DC): 10V; Dielectric: X7R; Termination: SMD/SMT; Series: C; Length: 0.126inch; Width: 0.063inch; Thickness: 0.071inch; Depth: 1.6mm; RoHS Compliant: Yes; ComponentLink1URL: http://www.farnell.com/datasheets/2323763.pdf?src-supplier=Farnell; ComponentLink1Description: http://www.farnell.com/datasheets/2323763.pdf?src-supplier=Farnell; ComponentLink2URL: http://www.farnell.com/datasheets/2746428.pdf?src-supplier=Farnell; ComponentLink2Description: http://www.farnell.com/datasheets/2746428.pdf?src-supplier=Farnell; ComponentLink3URL: http://www.mouser.com/ds/2/212/KEM_C1002_X7R_SMD-1102033.pdf?src-supplier=Mouser; ComponentLink3Description: http://www.mouser.com/ds/2/212/KEM_C1002_X7R_SMD-1102033.pdf?src-supplier=Mouser; ComponentLink4URL: http://components.arrow.com/part/dataview/0323_00339679?src-supplier=Arrow+Europe; ComponentLink4Description: http://components.arrow.com/part/dataview/0323_00339679?src-supplier=Arrow+Europe; ComponentLink5URL: http://components.arrow.com/part/dataview/46514937S98325N7429?src-supplier=Arrow+Electronics; ComponentLink5Description: http://components.arrow.com/part/dataview/46514937S98325N7429?src-supplier=Arrow+Electronics; ComponentLink6URL: https://api.kemet.com/component-edge/download/datasheet/C1206C106J8RACTU.pdf?src-supplier=Digi-Key; ComponentLink6Description: https://api.kemet.com/component-edge/download/datasheet/C1206C106J8RACTU.pdf?src-supplier=Digi-Key; ComponentLink7URL: http://www.farnell.com/datasheets/2746428.pdf?src-supplier=Newark; ComponentLink7Description: http://www.farnell.com/datasheets/2746428.pdf?src-supplier=Newark; ComponentLink8URL: https://search.kemet.com/component-edge/download/datasheet/C1206C106J8RACTU.pdf?src-supplier=Digi-Key; ComponentLink8Description: https://search.kemet.com/component-edge/download/datasheet/C1206C106J8RACTU.pdf?src-supplier=Digi-Key; Supplier Part Number 1: 399-9310-1-ND
footprint C1206C106J8RACTU
pins: 1, 2

## CRCW06032K20FKEAHP
designator R?, comment RES SMD 2.2K OHM 1% 1/3W 0603  (value not drawn)
Res Thick Film 0603 2.2K Ohm 1% 0.33W(1/3W) ±100ppm/°C Pad SMD Automotive T/R; Manufacturer: Vishay; Manufacturer Part Number: CRCW06032K20FKEAHP; Resistance: 2.2kR; Power Rating: 250mW; Voltage Rating: 75V; Supplier 1: Digi-Key; RoHS: Yes; Category: Chip SMD Resistors; Stock 1: 19777; Pricing 1: 1=0,17000, 10=0,14800, 100=0,05790, 1000=0,02422, 2500=0,02220 (USD); Mount: Surface Mount; Case/Package: 0603; Contact Plating: Tin; Case Code (Metric): 1608; Case Code (Imperial): 0603; Min Operating Temperature: -55°C; Max Operating Temperature: 155°C; Tolerance: 1%; Resistor Type: Thick Film; Temperature Coefficient: 100ppm/°C; Packaging: Tape and Reel; Package Quantity: 1; Number of Terminations: 2; Termination: Solder; Max Power Dissipation: 250mW; Voltage Rating (DC): 75V; Features: Automotive AEC-Q200; Series: CRCW-HP; Construction: Rectangular; Technology: THICK FILM; Resistance Tolerance: 1%; Length: 1.6mm; Width: 0.033inch; Height: 0.02inch; Depth: 0.85mm; Radiation Hardening: No; REACH SVHC: Unknown; Military Standard: Not; Lead Free: Lead Free; RoHS Compliant: Yes; ComponentLink1URL: https://datasheet.ciiva.com/16882/crcwhpe3-16882886.pdf?src-supplier=Avnet+Europe; ComponentLink1Description: https://datasheet.ciiva.com/16882/crcwhpe3-16882886.pdf?src-supplier=Avnet+Europe; ComponentLink2URL: https://datasheet.ciiva.com/9091/crcwhpe3-9091177.pdf?src-supplier=Avnet; ComponentLink2Description: https://datasheet.ciiva.com/9091/crcwhpe3-9091177.pdf?src-supplier=Avnet; ComponentLink3URL: https://datasheet.ciiva.com/7777/424479-7777307.pdf?src-supplier=Element14; ComponentLink3Description: https://datasheet.ciiva.com/7777/424479-7777307.pdf?src-supplier=Element14; ComponentLink4URL: https://datasheet.ciiva.com/7777/424479-7777308.pdf?src-supplier=Element14; ComponentLink4Description: https://datasheet.ciiva.com/7777/424479-7777308.pdf?src-supplier=Element14; Supplier Part Number 1: 541-2.20KSCT-ND
footprint CRCW06032K20FKEAHP
pins: 1, 2
text: 2.2k

## CRGP0805F4K7
designator R?, comment RES 4.7K OHM 1% 1/3W 0805
Res Thick Film 0201 10.5K Ohm 1% 1/20W ±100ppm/°C Molded SMD SMD Paper T/R; Manufacturer: TE Connectivity; Manufacturer Part Number: CRGP0805F4K7; Interface: I2C,SPI,GPIO,PWM,SDIO,UART; Resistance: 4.7kR; Max Power Dissipation: 333mW; Frequency: 2.5GHz; Data Rate: 150Mbps; Sensitivity: -98dBm; Memory Size: 536KB; Power Rating: 50mW; Voltage Rating: 30V; Supplier 1: Digi-Key; RoHS: Yes; Category: Chip SMD Resistors; Stock 1: 79511; Pricing 1: 1=0,24000, 10=0,20700, 100=0,08090, 1000=0,03384, 2500=0,03102 (USD); Mount: Surface Mount; Case/Package: 0805; Case Code (Imperial): 0805; Case Code (Metric): 2012; Min Operating Temperature: -55°C; Max Operating Temperature: 85°C; Resistor Type: Thick Film; Packaging: Tape and Reel; Tolerance: 1%; Temperature Coefficient: 100ppm/°C; Number of Terminations: 2; RoHS Compliant: Yes; ComponentLink1URL: https://www.te.com/commerce/DocumentDelivery/DDEController?Action=srchrtrv&amp;DocNm=9-1773463-9&amp;DocType=DS&amp;DocLang=English&src-supplier=Digi-Key; ComponentLink1Description: https://www.te.com/commerce/DocumentDelivery/DDEController?Action=srchrtrv&amp;DocNm=9-1773463-9&amp;DocType=DS&amp;DocLang=English&src-supplier=Digi-Key; Supplier Part Number 1: A130485DKR-ND; Supplier 2: Arrow Electronics; Stock 2: 3674; Pricing 2: 1=0,01900, 10000=0,01920, 10000=0,06430 (USD); Weight: 6E-06oz; Contact Plating: Tin; Series: CRCW; Package Quantity: 1; Voltage Rating (DC): 30V; Termination: SMD/SMT; Length: 0.024inch; Width: 0.3mm; Height: 0.011inch; Radiation Hardening: No; Lead Free: Lead Free; ComponentLink2URL: https://datasheet.ciiva.com/2473/crcw0201e3-2473796.pdf?src-supplier=Digi-Key; ComponentLink2Description: https://datasheet.ciiva.com/2473/crcw0201e3-2473796.pdf?src-supplier=Digi-Key; ComponentLink3URL: https://datasheet.ciiva.com/2473/crcw0201e3-2473797.pdf?src-supplier=Digi-Key; ComponentLink3Description: https://datasheet.ciiva.com/2473/crcw0201e3-2473797.pdf?src-supplier=Digi-Key; ComponentLink4URL: https://datasheet.ciiva.com/2473/crcw0201e3-2473798.pdf?src-supplier=Digi-Key; ComponentLink4Description: https://datasheet.ciiva.com/2473/crcw0201e3-2473798.pdf?src-supplier=Digi-Key; ComponentLink5URL: https://datasheet.ciiva.com/9048/crcw0201e3-9048586.pdf?src-supplier=Avnet; ComponentLink5Description: https://datasheet.ciiva.com/9048/crcw0201e3-9048586.pdf?src-supplier=Avnet
footprint CRGP0805F4K7
pins: 1, 2
text: 4k7Ohms

## DevEBox-STM32H743VIT6
designator IC?
footprint DevEBox-STM32H743VIT6
part A pins: 19 PA9/TX1, 20 PA8, 21 P11/USB_DM, 22 PA10/RX1, 23 PA15, 24 PA12/USB_DP, 71 PA7, 72 PA6, 73 PA5, 74 PA4, 75 PA3, 76 PA2, 77 PA1, 78 PA0
part B pins: 35 PB3, 37 PB5, 38 PB4, 39 PB7, 40 PB6, 41 PB9, 42 PB8, 51 PB15, 52 PB14, 53 PB13, 54 PB12, 55 PB11, 56 PB10, 66 PB2, 67 PB1, 68 PB0
part C pins: 15 PC7, 16 PC6, 17 PC9/SD_D1, 18 PC8/SD_D0, 25 PC11, 26 PC10, 28 PC12, 69 PC5, 70 PC4, 79 PC3, 80 PC2, 81 PC1, 82 PC0, 83 PC13
part D pins: 7 PD9/RX3, 8 PD8/TX3, 9 PD11, 10 PD10, 11 PD13/SDA4, 12 PD12/SCL4, 13 PD15, 14 PD14, 27 PD0, 29 PD2/SD_CMD, 30 PD1, 31 PD4, 32 PD3, 33 PD6, 34 PD5, 36 PD7
part E pins: 43 PE1, 44 PE0, 57 PE15, 58 PE14, 59 PE13, 60 PE12, 61 PE11, 62 PE10, 63 PE9, 64 PE8, 65 PE7, 84 PE6, 85 PE5, 86 PE4, 87 PE3, 88 PE2
part F pins: 1 5V, 2 5V, 3 3V3, 4 3V3, 5 GND, 6 GND, 45 3V3, 46 3V3, 47 GND, 48 GND, 49 VDDA, 50 VREF+

## DF13-4P-1.25H(21)
designator P?, comment CONN HEADER SMD R/A 4POS 1.25MM
Conn Shrouded Header HDR 4 POS 1.25mm Solder RA SMD Embossed T/R; Manufacturer: Hirose; Manufacturer Part Number: DF13-4P-1.25H(21); Number of Contacts: 4; Current Rating: 1A; Connector Type: Male Pin; Voltage Rating (AC): 150V; Designed By: Süeda KORKMAZ; Supplier 1: Digi-Key; RoHS: Yes; Category: Headers and Wire Housings; Stock 1: 39973; Pricing 1: 1=0,57000, 10=0,50100, 100=0,41300, 500=0,35910 (USD); Mount: Surface Mount; Color: Beige; Contact Plating: Tin; Contact Material: Brass; Housing Color: Beige; Housing Material: Polyamide; Number of Rows: 1; Termination: Solder; Package Quantity: 1000; Packaging: Tape and Reel; Number of Positions: 4; Length: 9.65mm; Height: 3.6mm; Pitch: 1.25mm; Radiation Hardening: No; Lead Free: Lead Free; ComponentLink1URL: https://datasheet.ciiva.com/5162/en-df13-20130411-268487-5162328.pdf?src-supplier=Mouser; ComponentLink1Description: https://datasheet.ciiva.com/5162/en-df13-20130411-268487-5162328.pdf?src-supplier=Mouser; Supplier Part Number 1: 26-DF13-4P-1.25H(21)CT-ND
footprint DF13-4P-1.25H(21)
pins: 1, 2, 3, 4
text: 4X1 HEADER

## DMN3135LVT-7
designator U?, comment MOSFET 2N-CH 30V 3.5A TSOT26
Trans MOSFET N-CH 30V 3.5A Automotive 6-Pin TSOT-23 T/R; Manufacturer: Diodes Zetex; Manufacturer Part Number: DMN3135LVT-7; Rds On Max: 60mR; Input Capacitance: 305pF; Rise Time: 4.6ns; Max Power Dissipation: 840mW; Turn-On Delay Time: 2.6ns; Turn-Off Delay Time: 13.1ns; Fall Time: 2.5ns; Gate to Source Voltage (Vgs): 20V; Number of Channels: 2; Drain to Source Resistance: 35mR; FET Type: 2 N-Channel; Polarity: N-CHANNEL; Supplier 1: Farnell; RoHS: Yes; Category: MOSFETs; Pricing 1: 5=0,54100, 50=0,45200, 100=0,36200, 500=0,22000 (EUR); Mount: Surface Mount; Case/Package: SOT-23-6; Number of Pins: 6; Min Operating Temperature: -55°C; Max Operating Temperature: 150°C; Package Quantity: 3000; Packaging: Tape and Reel; Drain to Source Voltage (Vdss): 30V; Continuous Drain Current (ID): 3.5A; Drain to Source Breakdown Voltage: 30V; Series: -; Radiation Hardening: No; REACH SVHC: No SVHC; Lead Free: Lead Free; RoHS Compliant: Yes; ComponentLink1URL: https://datasheet.ciiva.com/6367/dmn3135lvt-6367794.pdf?src-supplier=Digi-Key; ComponentLink1Description: https://datasheet.ciiva.com/6367/dmn3135lvt-6367794.pdf?src-supplier=Digi-Key; ComponentLink2URL: https://datasheet.ciiva.com/13051/dmn3135lvt-218880-13051751.pdf?src-supplier=Mouser; ComponentLink2Description: https://datasheet.ciiva.com/13051/dmn3135lvt-218880-13051751.pdf?src-supplier=Mouser; ComponentLink3URL: https://datasheet.ciiva.com/946/dmn3135lvt-946487.pdf?src-supplier=Digi-Key; ComponentLink3Description: https://datasheet.ciiva.com/946/dmn3135lvt-946487.pdf?src-supplier=Digi-Key; ComponentLink4URL: https://datasheet.ciiva.com/946/dmn3135lvt-946488.pdf?src-supplier=Digi-Key; ComponentLink4Description: https://datasheet.ciiva.com/946/dmn3135lvt-946488.pdf?src-supplier=Digi-Key
footprint DMN3135LVT-7 (NMOS)
pins: 1 G1, 2 S2, 3 G2, 4 D2, 5 S1, 6 D1
text: NMOS

## DMP2067LVT-7
designator Q
Transistor MOSFET P-Channel 20V 4.2A 6-Pin TSOT26 T/R; Manufacturer: Diodes; Manufacturer Part Number: DMP2067LVT-7; Supplier 1: RSComponents; RoHS: Yes; Stock 1: 3000; Pricing 1: 100=0,26500, 250=0,25800, 500=0,25100, 1000=0,24500 (GBP)
footprint DMP2067LVT-7
pins: 1 D, 2 D, 3 G, 4 S, 5 D, 6 D
text: PMOS

## ECA-1JM101B
designator C?, comment CAP ALUM 100UF 20% 63V RADIAL  Supplier Part Number 1: 7126622
Cap Aluminum 100uF 63V 20% (8 X 11.5mm) Radial 5mm 270mA 2000h 85C Ammo Pack; Manufacturer: Panasonic; Manufacturer Part Number: ECA-1JM101B; Life (Hours): 2000Hour; Polarity: Polar; Lead/Base Style: Straight; Lead Diameter: 0.6mm; Supplier 1: Future Electronics; RoHS: Yes; Category: Aluminum Electrolytic Capacitors; Stock 1: 4000; Pricing 1: 1000=0,82000, 2000=0,66000, 3000=0,65500 (USD); Mount: Through Hole; Case/Package: Radial; Contact Plating: Tin; Min Operating Temperature: -40°C; Max Operating Temperature: 85°C; Capacitance: 100uF; Tolerance: 20%; Ripple Current: 270mA; Termination: Radial; Voltage Rating: 63V; Packaging: Tape and Reel; Package Quantity: 1000; Voltage Rating (DC): 63V; Series: M; Construction: RADIAL; Diameter: 8mm; Length: 11.5mm; Width: 8mm; Height: 11.5mm; Lead Pitch: 5mm; Height - Seated (Max): 0.492inch; Radiation Hardening: No; RoHS Compliant: Yes; ComponentLink1URL: https://datasheet.ciiva.com/15197/getdatasheetpartid-310766-15197975.pdf?src-supplier=Verical; ComponentLink1Description: https://datasheet.ciiva.com/15197/getdatasheetpartid-310766-15197975.pdf?src-supplier=Verical; ComponentLink2URL: https://datasheet.ciiva.com/24231/aba0000ce12-465472-24231244.pdf?src-supplier=Mouser; ComponentLink2Description: https://datasheet.ciiva.com/24231/aba0000ce12-465472-24231244.pdf?src-supplier=Mouser; ComponentLink3URL: https://datasheet.ciiva.com/10330/aba0000ce12-10330744.pdf?src-supplier=Avnet; ComponentLink3Description: https://datasheet.ciiva.com/10330/aba0000ce12-10330744.pdf?src-supplier=Avnet; ComponentLink4URL: https://datasheet.ciiva.com/30197/49aba0000ce12-30197975.pdf?src-supplier=Onlinecomponents.com; ComponentLink4Description: https://datasheet.ciiva.com/30197/49aba0000ce12-30197975.pdf?src-supplier=Onlinecomponents.com
footprint ECA-1JM101B
pins: 1, 2
text: +